# Altium footprint library E-Nose&Alphasense.PcbLib: 23 footprints (part 1 of 2)
Each footprint in its own frame and in the unit in brackets; x right, y up, seen from the top. Pads: shape width x height; smd on the part's side, far side on the other; paste and mask are expansions set on the pad; w line width, h text height; cw(c..) or ccw(c..) is an arc to the next point about the centre after c.
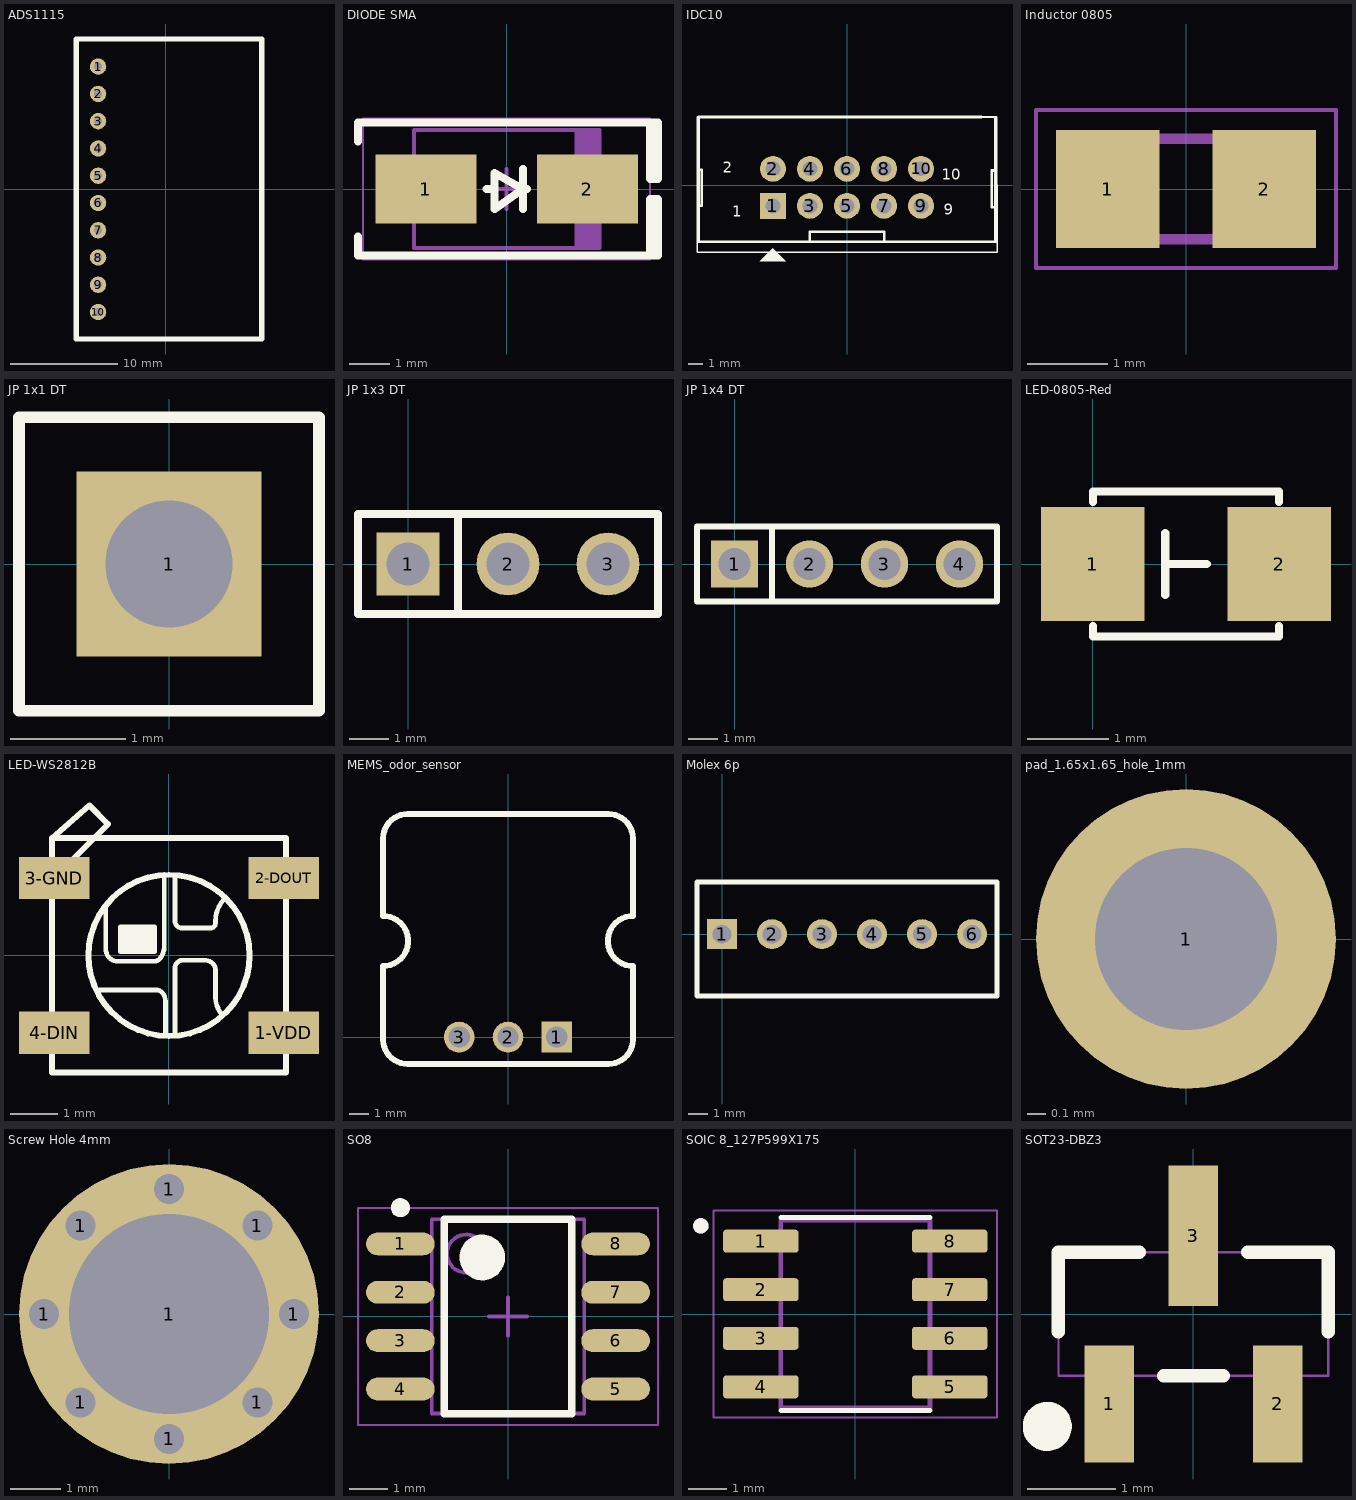
[diagram p0: the footprints below, top view; thin cyan lines are the x and y axes]

## ADS1115 [mil] "ADS1115 Module Footprint"
pads (10):
  round 60 hole 30: 1(-248.03,448.82) 2(-248.03,348.82) 3(-248.03,248.82) 4(-248.03,148.82) 5(-248.03,48.82) 6(-248.03,-51.18) 7(-248.03,-151.18) 8(-248.03,-251.18) 9(-248.03,-351.18) 10(-248.03,-451.18)
Top Overlay:
  lines w19.68: -328.18,-550 351.82,-550 351.82,550 -328.18,550 -328.18,-550
3D body "16Bit I2C ADC+PGA - ADS1115.stp": height 265.36, standoff 157.48, extent -328.18,-550 351.82,550

## DIODE SMA [mm] "SMA"
height 2.4
pads (2):
  rect 2.5x1.7 smd: 1(-2,0) 2(2,0)
Top Overlay:
  lines w0.2: -3.683,-1.175 -3.683,-1.651 3.75,-1.651 3.75,-0.254 3.556,-0.254 3.556,-1.651 ; -3.683,1.175 -3.683,1.651 3.75,1.651 3.75,0.254 3.556,0.254 3.556,1.651 ; -0.5,0 -0.3,0 ; 0.4,-0.5 0.4,0.5 ; 0.5,0 0.4,0 ; 0.4,0 -0.3,0.4 -0.3,-0.5 0.4,0
Mechanical 13:
  rectangle: 1.681,-1.46 2.3,1.46
  lines w0.1: -2.3,-1.46 -2.3,1.46 2.3,1.46 2.3,-1.46 -2.3,-1.46
Mechanical 15:
  lines w0.05: -3.556,-1.75 -3.556,1.75 3.556,1.75 3.556,-1.75 -3.556,-1.75
  lines w0.1: -0.5,0 0.5,0 ; 0,-0.5 0,0.5
3D body "SMA.STEP": height 2.4, standoff 0, extent -2.6,-1.375 2.6,1.375

## IDC10 [mil]
pads (10):
  rect 70x70 hole 40: 1(-200,-55)
  round 70 hole 40: 2(-200,45) 3(-100,-55) 4(-100,45) 5(0,-55) 6(0,45) 7(100,-55) 8(100,45) 9(200,-55) 10(200,45)
Top Overlay:
  region: -200,-170 -235,-205 -165,-205
  lines w4: -405,-180 405,-180 405,186 -405,186 -405,-180
  lines w5: 362.79,185 400,185 400,140 401,140
  lines w7: -400.79,-55.98 -399.8,-55 -391.93,-55 -391.93,42.44 -400.79,42.44 ; -100.59,-151 -100.59,-125 100.2,-125 100.2,-152 ; 398.56,-151.44 401,-149 ; 401,-59 391,-59 391,40.41 401,40.41 ; 402,-152.44 -400.79,-152.44 -400.79,185 ; -400.79,185 362.79,185 -400.79,185 ; 401,-149 401,146 401,-149
  text "1" at -309.25,-84.53 h30
  text "2" at -335,35 h30
  text "9" at 261,-79 h30
  text "10" at 256,16 h30
3D body "User Library-IDC-10M.STEP": height 366.14, standoff -122.05, extent -399.6,-178.23 399.61,180.04

## Inductor 0805 [mm]
pads (2):
  rect 1.285x1.47 smd: 1(-0.973,0) 2(0.973,0)
Mechanical 13:
  lines w0.127: -1,-0.625 -1,0.625 1,0.625 1,-0.625 -1,-0.625
Mechanical 15:
  lines w0.05: -1.865,-0.985 -1.865,0.985 1.865,0.985 1.865,-0.985 -1.865,-0.985
3D body "step_temp.STEP": height 1, standoff 0, extent -1,-0.625 1,0.625

## JP 1x1 DT [mm] "1pins, 1 row, straight, gold plating"
height 8.54
pads (1):
  rect 1.6x1.6 hole 1.1: 1(0,0)
Top Overlay:
  lines w0.1: -1.3,-1.27 -1.3,1.27 1.3,1.27 1.3,-1.27 -1.3,-1.27
3D body "61300111121.stp": height 8.54, standoff -3, extent -1.27,-1.27 1.27,1.27

## JP 1x3 DT [mm]
height 8.54
pads (3):
  rect 1.6x1.6 hole 1.1: 1(0,0)
  round 1.6 hole 1.1: 2(2.54,0) 3(5.08,0)
Top Overlay:
  lines w0.2: 1.27,-1.27 1.27,1.27 ; -1.27,-1.27 6.35,-1.27 6.35,1.27 -1.27,1.27 -1.27,-1.27
3D body "61300311121.stp": height 8.54, standoff -3, extent -1.27,-1.27 6.35,1.27

## JP 1x4 DT [mm] "4 pins, 1 row, straight, gold plating"
height 8.54
pads (4):
  rect 1.6x1.6 hole 1.1: 1(0,0)
  round 1.6 hole 1.1: 2(2.54,0) 3(5.08,0) 4(7.62,0)
Top Overlay:
  lines w0.2: 1.27,-1.27 1.27,1.27 ; -1.27,-1.27 -1.27,1.27 8.89,1.27 8.89,-1.27 -1.27,-1.27
3D body "61300411121.stp": height 8.54, standoff -3, extent -1.27,-1.27 8.89,1.27

## LED-0805-Red [mil]
pads (2):
  rect 50x55 smd: 1(0,0) 2(90,0)
Top Overlay:
  lines w3.94: 35,-15 35,15 ; 35,0 55,0
  lines w4: 0,-30 0,-35 90,-35 90,-30 ; 0,30 0,35 90,35 90,30
3D body "User Library-led_0805-red.step": height 43.31, standoff 0, extent 5.24,-24.6 84.77,24.61

## LED-WS2812B [mm]
pads (4):
  rect 1.5x0.9 smd: 1-VDD(2.45,-1.65) 2-DOUT(2.45,1.65) 3-GND(-2.45,1.65) 4-DIN(-2.45,-1.65)
Top Overlay:
  circle w0.127: c0,0 r1.72
  region: -0.305,0.076 -1.041,0.076 -1.041,0.61 -1.016,0.584 -0.305,0.584
  lines w0.1: -1.549,-0.737 -0.275,-0.737 cw(c-0.275,-0.91) -0.152,-0.787 cw(c-0.336,-0.971) -0.076,-0.971 -0.076,-1.702 ; -1.346,1.067 -1.346,0.127 ccw(c-1.092,0.127) -1.092,-0.127 -0.317,-0.127 ccw(c-0.317,0.025) -0.209,-0.082 ccw(c-0.47,0.178) -0.102,0.178 -0.102,1.727 ; 0.127,-1.651 0.127,-0.275 cw(c0.3,-0.275) 0.178,-0.152 cw(c0.3,-0.275) 0.3,-0.102 0.756,-0.102 cw(c0.756,-0.362) 0.94,-0.178 cw(c0.817,-0.3) 0.991,-0.3 0.991,-0.642 0.991,-0.902 ccw(c1.511,-0.902) 1.143,-1.27 ; 0.127,1.702 0.127,0.737 ccw(c0.279,0.737) 0.279,0.584 0.787,0.584 0.889,0.584 ccw(c0.889,0.686) 0.991,0.686 0.991,0.729 cw(c1.684,0.729) 1.194,1.219 ; -1.041,0.076 -0.305,0.076 -0.305,0.61 -1.041,0.61 -1.041,0.076
  lines w0.127: -2.5,1.6 -2.5,-2.5 2.5,-2.5 2.5,2.5 -1.6,2.5 ; -2.5,1.6 -2.5,2.5 ; -2.5,1.6 -1.6,2.5 ; -2.5,2.5 -1.6,2.5 ; -2.5,2.5 -1.7,3.2 -1.3,2.8 -1.6,2.5
3D body "User Library-ws2812B-1.STEP": height 1.6, standoff 0.03, extent -2.7,-2.54 2.7,2.46

## MEMS_odor_sensor [mm] "DFRobot"
pads (3):
  rect 1.6x1.6 hole 1.1: 1(2.54,0)
  round 1.6 hole 1.1: 2(0,0) 3(-2.54,0)
Top Overlay:
  lines w0.3: -6.5,-0.127 ccw(c-5.23,-0.127) -5.23,-1.397 -5,-1.397 5,-1.397 5.23,-1.397 ccw(c5.23,-0.127) 6.5,-0.127 6.5,0 6.5,3.695 cw(c6.5,5) 6.5,6.305 6.5,10 6.5,10.333 ccw(c5.23,10.333) 5.23,11.603 5,11.603 -5,11.603 -5.23,11.603 ccw(c-5.23,10.333) -6.5,10.333 -6.5,10 -6.5,6.305 cw(c-6.5,5) -6.5,3.695 -6.5,0 -6.5,-0.127

## Molex 6p [mil]
pads (6):
  rect 60x60 hole 37.4: 1(0,0)
  round 60 hole 37.4: 2(100,0) 3(200,0) 4(300,0) 5(400,0) 6(500,0)
Top Overlay:
  lines w10: -50,-123.86 -50,104.53 549.06,104.53 549.68,103.9 549.68,-123.66 549.49,-123.86 -50,-123.86
3D body "Molex-2.54-6pin.STEP": height 445.3, standoff -116.27, extent -50.2,-124.01 549.8,104.33

## pad_1.65x1.65_hole_1mm [mm]
height 2
pads (1):
  round 1.65 hole 1: 1(0,0)

## Screw Hole 4mm [mm]
pads (9):
  round 0.6 hole 0.6: 1(-2.5,0) 1(-1.768,-1.768) 1(-1.768,1.768) 1(0,-2.5) 1(0,2.5) 1(1.768,-1.768) 1(1.768,1.768) 1(2.5,0)
  round 6 hole 4: 1(0,0)

## SO8 [mm] "SOIC, 8-Leads, Body 4.9x3.9mm, Pitch 1.27mm, IPC High Density"
pads (8):
  oval 1.8x0.6 smd: 1(-2.825,1.905) 2(-2.825,0.635) 3(-2.825,-0.635) 4(-2.825,-1.905) 5(2.825,-1.905) 6(2.825,-0.635) 7(2.825,0.635) 8(2.825,1.905)
Top Overlay:
  circle w0.6: c-0.675,1.55 r0.3
  circle w0.25: c-2.825,2.855 r0.125
  lines w0.2: -1.675,-2.55 1.675,-2.55 1.675,2.55 -1.675,2.55 -1.675,-2.55
Mechanical 13:
  circle w0.1: c-1.1,1.65 r0.5
  lines w0.1: -2,-2.55 2,-2.55 2,2.55 -2,2.55 -2,-2.55
Mechanical 15:
  lines w0.05: -3.937,-2.85 3.937,-2.85 3.937,2.85 -3.937,2.85 -3.937,-2.85
  lines w0.1: -0.5,0 0.5,0 ; 0,-0.5 0,0.5
3D body "CircuitWorks-SO-8 (PIC12FXXX).step": height 1.6, standoff 0, extent -2.995,-2.45 2.995,2.45

## SOIC 8_127P599X175 [mm]
pads (8):
  rrect25% 1.97x0.6 smd: 1(-2.47,1.905) 2(-2.47,0.635) 3(-2.47,-0.635) 4(-2.47,-1.905) 5(2.47,-1.905) 6(2.47,-0.635) 7(2.47,0.635) 8(2.47,1.905)
Top Overlay:
  circle w0.2: c-4.04,2.305 r0.1
  lines w0.127: -1.95,-2.525 1.95,-2.525 ; -1.95,2.525 1.95,2.525
Mechanical 13:
  circle w0.2: c-4.04,2.305 r0.1
  lines w0.127: -1.95,-2.452 1.95,-2.452 1.95,2.452 -1.95,2.452 -1.95,-2.452
Mechanical 15:
  lines w0.05: -3.705,-2.702 3.705,-2.702 3.705,2.702 -3.705,2.702 -3.705,-2.702
3D body "step_temp.STEP": height 1.75, standoff 0, extent -2.997,-2.451 2.997,2.451

## SOT23-DBZ3 [mil] "CASE: SOT23"
pads (3):
  rect 22x52 smd: 1(-37.4,-40) 2(37.4,-40)
  rect 22x62.5 smd: 3(0,34.75)
Top Overlay:
  circle w11.81: c-65,-50 r5
  lines w6: -60,-7.91 -60,27.5 -24.1,27.5 ; -13.3,-27.5 13.3,-27.5 ; 24.1,27.5 60,27.5 60,-7.91
Mechanical 13:
  lines w1: -60,-27.5 -60,27.5 60,27.5 60,-27.5 -60,-27.5 ; -47.4,-52 -27.4,-52 -27.4,-27.5 -47.4,-27.5 -47.4,-52 ; -10,27.5 -10,52 10,52 10,27.5 -10,27.5 ; 27.4,-52 47.4,-52 47.4,-27.5 27.4,-27.5 27.4,-52
3D body "DBZ3.step": height 44.09, standoff 0, extent -60,-27.48 60,27.48